# EAGLE library part CDCLVC1106 (library cdclvc11xx_10)
CDCLVC1106 3.3V and 2.5V LVCMOS High-Performance Clock Buffer - 1:6 Fan-out Source: http://www.ti.com/lit/ds/symlink/cdclvc1106.pdf
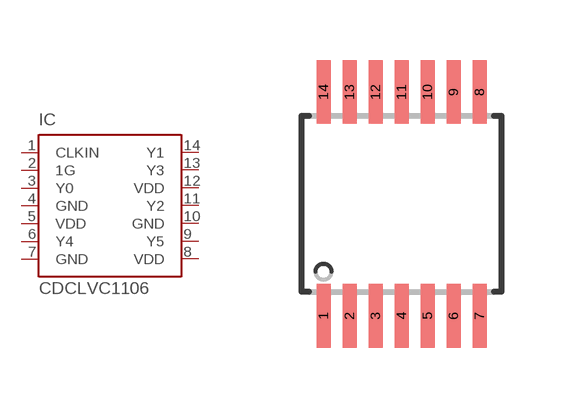
[diagram p3: symbol with the pads of TSSOP14; footprint TSSOP14]

Designator prefix IC

## CDCLVC1106PW (MF: Texas Instruments; MPN: CDCLVC1106; OC_FARNELL: 1829682; OC_NEWARK: 79R7912)  [TSSOP14]
1  CLKIN  in
2  1G  in
3  Y0  out
4  GND  pwr
5  VDD  pwr
6  Y4  out
7  GND  pwr
8  VDD  pwr
9  Y5  out
10  GND  pwr
11  Y2  out
12  VDD  pwr
13  Y3  out
14  Y1  out

## Footprint TSSOP14 (pad centres in mm)
TSSOP-14 Plastic Thin Srink Small Outline (PW) Source: http://www.ti.com/lit/ds/symlink/cdclvc1106.pdf
smd 0.35 x 1.6: 1 -1.95,-2.8; 2 -1.3,-2.8; 3 -0.65,-2.8; 4 0,-2.8; 5 0.65,-2.8; 6 1.3,-2.8; 7 1.95,-2.8; 8 1.95,2.8; 9 1.3,2.8; 10 0.65,2.8; 11 0,2.8; 12 -0.65,2.8; 13 -1.3,2.8; 14 -1.95,2.8